# Altium integrated library BQ24090.IntLib: 1 symbol
Pins are listed as number, name and electrical type; pins without a type are passive.

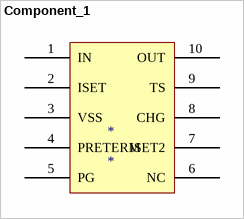
[diagram p0: symbol Component_1]

## Component_1
designator *
footprint PCBComponent_1
pins: 1 IN, 2 ISET, 3 VSS, 4 PRETERM, 5 PG, 6 NC, 7 ISET2, 8 CHG, 9 TS, 10 OUT